# Altium schematic symbol library LED_0805_YELLOW.SchLib: 1 symbol
Pins are listed as number, name and electrical type; pins without a type are passive.

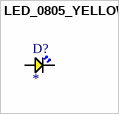
[diagram p0: symbol LED_0805_YELLOW]

## LED_0805_YELLOW
designator D?
20mA 535mcd Colorless Transparent Lens 585nm~595nm Positive Stick Yellow 120° 50mW 2.3V 0805 LED Indication - Discrete ROHS; Manufacturer: XINGLIGHT; Manufacturer Part: XL-2012UYC; Forward Current: 20mA; Forward Voltage: 2.3V; ComponentLink1Description: Datasheet; ComponentLink1URL: https://www.lcsc.com/datasheet/lcsc_datasheet_2504101957_XINGLIGHT-XL-2012UYC_C965814.pdf
footprint LED_0805_YELLOW
pins: 1, 2